# EAGLE library part LAYOUT_BLUETOOTH-BT900-SX (library Mother-Board-rev5)
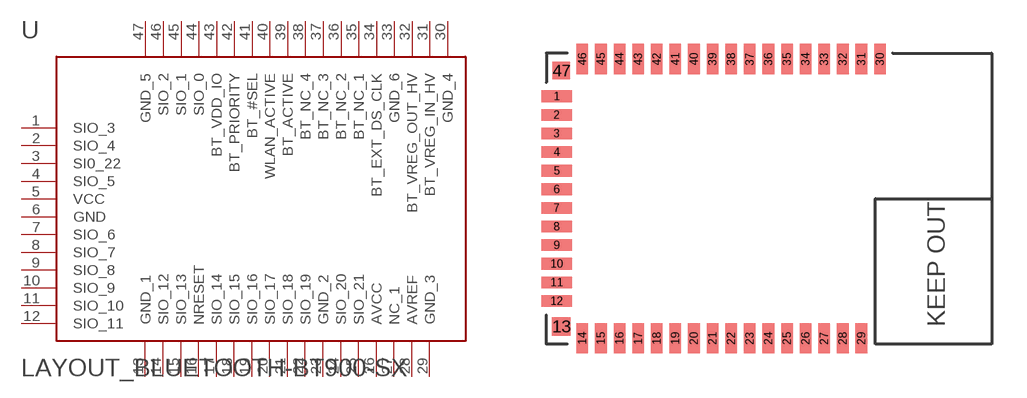
[diagram p1: symbol with the pads of LAYOUT_BLUETOOTH_FOOTPRINT; footprint LAYOUT_BLUETOOTH_FOOTPRINT]

Designator prefix -

## LAYOUT_BLUETOOTH-BT900-SX  [LAYOUT_BLUETOOTH_FOOTPRINT]
1  SIO_3
2  SIO_4
3  SI0_22
4  SIO_5
5  VCC
6  GND
7  SIO_6
8  SIO_7
9  SIO_8
10  SIO_9
11  SIO_10
12  SIO_11
13  GND_1
14  SIO_12
15  SIO_13
16  NRESET
17  SIO_14
18  SIO_15
19  SIO_16
20  SIO_17
21  SIO_18
22  SIO_19
23  GND_2
24  SIO_20
25  SIO_21
26  AVCC
27  NC_1
28  AVREF
29  GND_3
30  GND_4
31  BT_VREG_IN_HV
32  BT_VREG_OUT_HV
33  GND_6
34  BT_EXT_DS_CLK
35  BT_NC_1
36  BT_NC_2
37  BT_NC_3
38  BT_NC_4
39  BT_ACTIVE
40  WLAN_ACTIVE
41  BT_#SEL
42  BT_PRIORITY
43  BT_VDD_IO
44  SIO_0
45  SIO_1
46  SIO_2
47  GND_5

## Footprint LAYOUT_BLUETOOTH_FOOTPRINT (pad centres in mm)
smd 1.3 x 0.5: 1 -9.2,4.4; 2 -9.2,3.6; 3 -9.2,2.8; 4 -9.2,2; 5 -9.2,1.2; 6 -9.2,0.4; 7 -9.2,-0.4; 8 -9.2,-1.2; 9 -9.2,-2; 10 -9.2,-2.8; 11 -9.2,-3.6; 12 -9.2,-4.4
smd 0.8 x 0.8: 13 -9,-5.5
smd 0.5 x 1.3: 14 -8.1,-6; 15 -7.3,-6; 16 -6.5,-6; 17 -5.7,-6; 18 -4.9,-6; 19 -4.1,-6; 20 -3.3,-6; 21 -2.5,-6; 22 -1.7,-6; 23 -0.9,-6; 24 -0.1,-6; 25 0.7,-6; 26 1.5,-6; 27 2.3,-6; 28 3.1,-6; 29 3.9,-6; 30 4.7,6; 31 3.9,6; 32 3.1,6; 33 2.3,6; 34 1.5,6; 35 0.7,6; 36 -0.1,6; 37 -0.9,6; 38 -1.7,6; 39 -2.5,6; 40 -3.3,6; 41 -4.1,6; 42 -4.9,6; 43 -5.7,6; 44 -6.5,6; 45 -7.3,6; 46 -8.1,6
smd 0.75 x 0.75: 47 -9,5.5